# EAGLE library part FE06-SPI-USD (library expansion_headers)
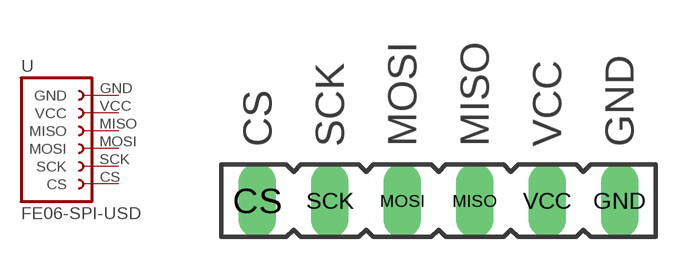
[diagram p1: symbol with the pads of FE06-SPI-USD; footprint FE06-SPI-USD]

Designator prefix -

## FE06-SPI-USD  [FE06-SPI-USD]
CS  CS  pas
GND  GND  pas
MISO  MISO  pas
MOSI  MOSI  pas
SCK  SCK  pas
VCC  VCC  pas

## Footprint FE06-SPI-USD (pad centres in mm)
FEMALE HEADER
drill 0.813 long: CS -6.35,0; GND 6.35,0; MISO 1.27,0; MOSI -1.27,0; SCK -3.81,0; VCC 3.81,0